# Altium integrated library ZF5S-25-01-T-WT-K-TR.IntLib: 1 symbol
Pins are listed as number, name and electrical type; pins without a type are passive.

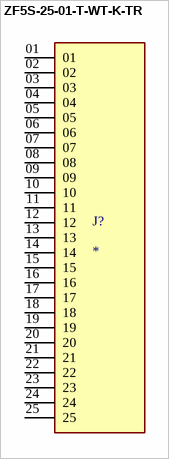
[diagram p0: symbol ZF5S-25-01-T-WT-K-TR]

## ZF5S-25-01-T-WT-K-TR
designator J?
MP: ZF5S-25-01-T-WT-K-TR; Value: *; Availability: Unavailable; Price: None; Package: None
footprint SAMTEC_ZF5S-25-01-T-WT-K-TR
pins: 01, 02, 03, 04, 05, 06, 07, 08, 09, 10, 11, 12, 13, 14, 15, 16, 17, 18, 19, 20, 21, 22, 23, 24, 25